# EAGLE library part ESP32PICOKIT_ESP32-PICO-KIT (library onspeed)
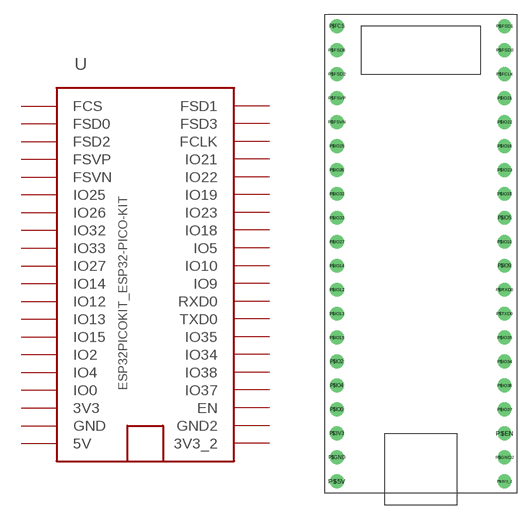
[diagram p0: symbol with the pads of ESP32PICOKIT_ESP32PICOKIT; footprint ESP32PICOKIT_ESP32PICOKIT]

Designator prefix -

## ESP32PICOKIT_ESP32-PICO-KITPICO  [ESP32PICOKIT_ESP32PICOKIT]
P$3V3  3V3
P$3V3_2  3V3_2
P$5V  5V
P$EN  EN
P$FCLK  FCLK
P$FCS  FCS
P$FSD0  FSD0
P$FSD1  FSD1
P$FSD2  FSD2
P$FSD3  FSD3
P$FSVN  FSVN
P$FSVP  FSVP
P$GND  GND
P$GND2  GND2
P$IO0  IO0
P$IO2  IO2
P$IO4  IO4
P$IO5  IO5
P$IO9  IO9
P$IO10  IO10
P$IO12  IO12
P$IO13  IO13
P$IO14  IO14
P$IO15  IO15
P$IO18  IO18
P$IO19  IO19
P$IO21  IO21
P$IO22  IO22
P$IO23  IO23
P$IO25  IO25
P$IO26  IO26
P$IO27  IO27
P$IO32  IO32
P$IO33  IO33
P$IO34  IO34
P$IO35  IO35
P$IO37  IO37
P$IO38  IO38
P$RXD0  RXD0
P$TXD0  TXD0

## Footprint ESP32PICOKIT_ESP32PICOKIT (pad centres in mm)
drill 0.965: P$3V3 -7.62,-10.16; P$3V3_2 10.16,-15.24; P$5V -7.62,-15.24; P$EN 10.16,-10.16; P$FCLK 10.16,27.94; P$FCS -7.62,33.02; P$FSD0 -7.62,30.48; P$FSD1 10.16,33.02; P$FSD2 -7.62,27.94; P$FSD3 10.16,30.48; P$FSVN -7.62,22.86; P$FSVP -7.62,25.4; P$GND -7.62,-12.7; P$GND2 10.16,-12.7; P$IO0 -7.62,-7.62; P$IO2 -7.62,-2.54; P$IO4 -7.62,-5.08; P$IO5 10.16,12.7; P$IO9 10.16,7.62; P$IO10 10.16,10.16; P$IO12 -7.62,5.08; P$IO13 -7.62,2.54; P$IO14 -7.62,7.62; P$IO15 -7.62,0; P$IO18 10.16,15.24; P$IO19 10.16,20.32; P$IO21 10.16,25.4; P$IO22 10.16,22.86; P$IO23 10.16,17.78; P$IO25 -7.62,20.32; P$IO26 -7.62,17.78; P$IO27 -7.62,10.16; P$IO32 -7.62,15.24; P$IO33 -7.62,12.7; P$IO34 10.16,-2.54; P$IO35 10.16,0; P$IO37 10.16,-7.62; P$IO38 10.16,-5.08; P$RXD0 10.16,5.08; P$TXD0 10.16,2.54